# EAGLE library part TLV320DAC3100IRHBR (library TLV320DAC3100IRHBR)
Low-Power Stereo Audio DAC With Mono Class-D Speaker Amplifier Source: Datasheet <http://www.ti.com/lit/gpn/tlv320dac3100>
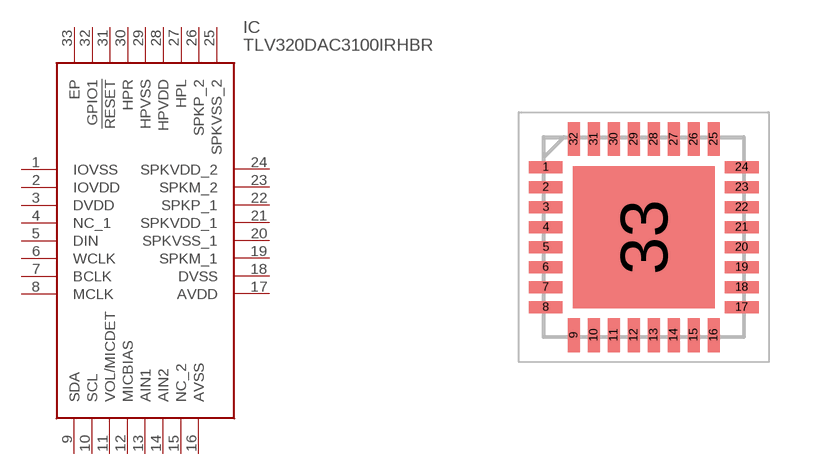
[diagram p0: symbol with the pads of QFN50P500X500X100-33N; footprint QFN50P500X500X100-33N]

Designator prefix IC

## TLV320DAC3100IRHBR (Arrow_Part_Number: TLV320DAC3100IRHBR; Arrow_Price-Stock: https://www.arrow.com/en/products/tlv320dac3100irhbr/texas-instruments; Description: Low-Power Stereo Audio DAC With Mono Class-D Speaker Amplifier; Height: 1mm; Manufacturer_Name: Texas Instruments; Manufacturer_Part_Number: TLV320DAC3100IRHBR; Mouser_Part_Number: 595-V320DAC3100IRHBR; Mouser_Price-Stock: https://www.mouser.co.uk/ProductDetail/Texas-Instruments/TLV320DAC3100IRHBR?qs=3cDLNOBdYaVbf6PwncCV0w%3D%3D)  [QFN50P500X500X100-33N]
1  IOVSS
2  IOVDD
3  DVDD
4  NC_1
5  DIN
6  WCLK
7  BCLK
8  MCLK
9  SDA
10  SCL
11  VOL/MICDET
12  MICBIAS
13  AIN1
14  AIN2
15  NC_2
16  AVSS
17  AVDD
18  DVSS
19  SPKM_1
20  SPKVSS_1
21  SPKVDD_1
22  SPKP_1
23  SPKM_2
24  SPKVDD_2
25  SPKVSS_2
26  SPKP_2
27  HPL
28  HPVDD
29  HPVSS
30  HPR
31  !RESET
32  GPIO1
33  EP

## Footprint QFN50P500X500X100-33N (pad centres in mm)
RHB0032E-
smd 0.85 x 0.3: 1 -2.45,1.75; 2 -2.45,1.25; 3 -2.45,0.75; 4 -2.45,0.25; 5 -2.45,-0.25; 6 -2.45,-0.75; 7 -2.45,-1.25; 8 -2.45,-1.75; 17 2.45,-1.75; 18 2.45,-1.25; 19 2.45,-0.75; 20 2.45,-0.25; 21 2.45,0.25; 22 2.45,0.75; 23 2.45,1.25; 24 2.45,1.75
smd 0.3 x 0.85: 9 -1.75,-2.45; 10 -1.25,-2.45; 11 -0.75,-2.45; 12 -0.25,-2.45; 13 0.25,-2.45; 14 0.75,-2.45; 15 1.25,-2.45; 16 1.75,-2.45; 25 1.75,2.45; 26 1.25,2.45; 27 0.75,2.45; 28 0.25,2.45; 29 -0.25,2.45; 30 -0.75,2.45; 31 -1.25,2.45; 32 -1.75,2.45
smd 3.55 x 3.55: 33 0,0